# Altium schematic symbol library SCH - OPAMP - TI LMP2011MF DBV.SCHLIB: 1 symbol
Pins are listed as number, name and electrical type; pins without a type are passive.

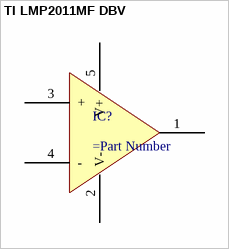
[diagram p0: symbol TI LMP2011MF DBV]

## TI LMP2011MF DBV
designator IC?
pins: 1 OUT, 2 V-, 3 +, 4 -, 5 V+